# Altium integrated library BH-18650-PC.IntLib: 1 symbol
Pins are listed as number, name and electrical type; pins without a type are passive.

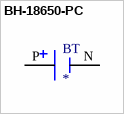
[diagram p0: symbol BH-18650-PC]

## BH-18650-PC
designator BT
Battery Holder _Open_ 18650 1 Cell PC Pin; MF: MPD _Memory; MP: BH-18650-PC; Package: DFN-8 Memory Protection Devices; Value: *; Availability: Unavailable; SnapEDA_Link: https://www.snapeda.com/parts/BH-18650-PC/MPD%20%28Memory%20Protection%20Devices%29/view-part/779074/?ref=snap; Price: None
footprint BAT_BH-18650-PC
pins: N NEG, P POS